# Altium footprint library Supernova Resistors.PcbLib: 45 footprints (part 3 of 3)
Each footprint in its own frame and in the unit in brackets; x right, y up, seen from the top. Pads: shape width x height; smd on the part's side, far side on the other; paste and mask are expansions set on the pad; w line width, h text height; cw(c..) or ccw(c..) is an arc to the next point about the centre after c.
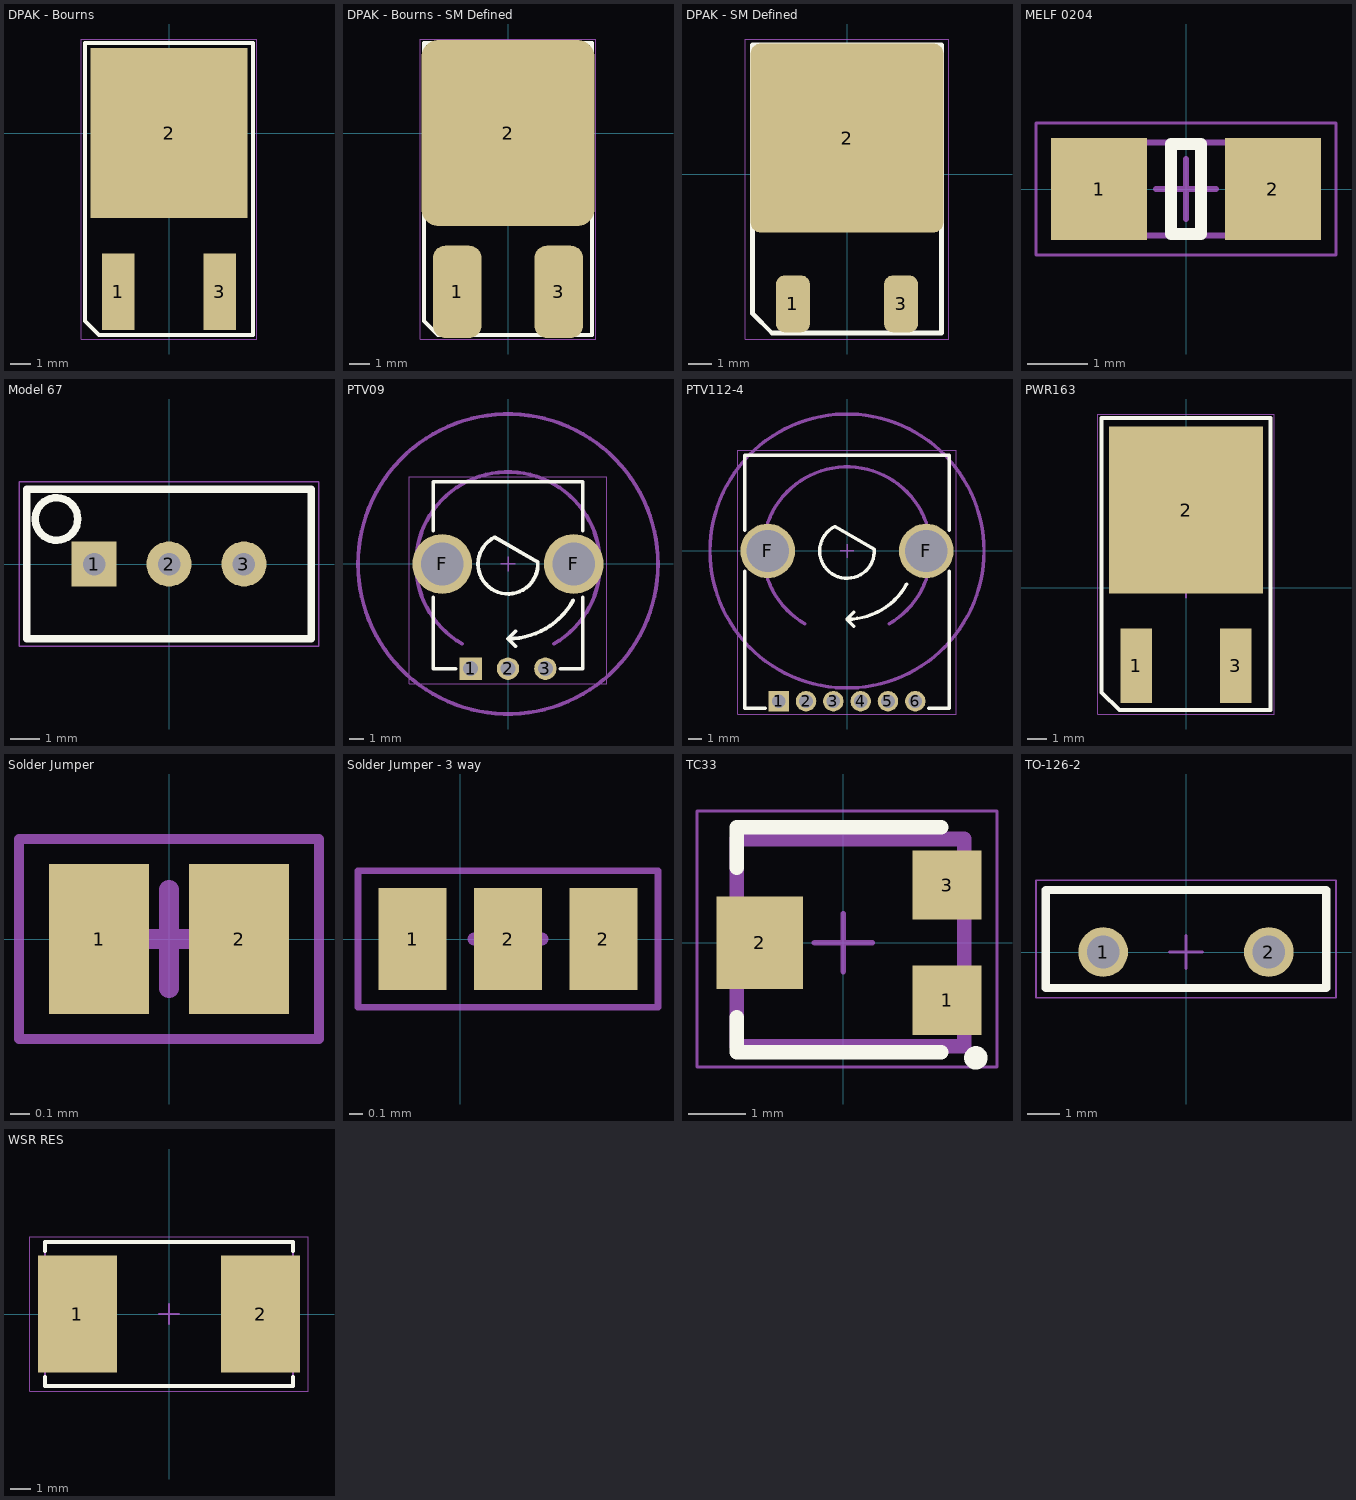
[diagram p2: the footprints below, top view; thin cyan lines are the x and y axes]

## DPAK - Bourns [mm] "D2-PAK/TO-263-AB; 3 Leads (1 Cropped); Body 15.5 (inc. leads) x 10.5 mm (LxW max)"
height 4.69
pads (3):
  rect 1.62x3.81 smd: 1(-2.54,-7.94) 3(2.54,-7.94)
  rect 7.87x8.51 smd paste-5: 2(0,0)
Top Overlay:
  lines w0.2: -4.2,-9.4 -3.5,-10.1 4.2,-10.1 4.2,4.5 -4.2,4.5 -4.2,-9.4
Top Paste:
  region: -3.4,0.276 -0.3,0.276 -0.3,3.75 -3.4,3.75
  region: -3.4,-3.75 -0.3,-3.75 -0.3,-0.224 -3.4,-0.224
  region: 0.3,-3.75 3.4,-3.75 3.4,-0.224 0.3,-0.224
  region: 0.35,0.276 3.45,0.276 3.45,3.75 0.35,3.75
Top Courtyard (Mech15):
  lines w0.05: -4.4,-10.3 -4.4,4.7 4.4,4.7 4.4,-10.3 -4.4,-10.3
  lines w0.1: -0.5,-1.524 0.5,-1.524 ; 0,-2.024 0,-1.024
3D body "pwr163.step": height 2.79, standoff 0, extent -4.065,-8.65 4.065,3.6

## DPAK - Bourns - SM Defined [mm] "D2-PAK/TO-263-AB; 3 Leads (1 Cropped); Body 15.5 (inc. leads) x 10.5 mm (LxW max)"
height 4.69
pads (3):
  rrect50% 2.42x4.61 smd paste-0.4 mask-0.4: 1(-2.54,-7.94) 3(2.54,-7.94)
  rrect20% 8.67x9.31 smd paste-8 mask-0.4: 2(0,0)
Top Overlay:
  lines w0.2: -4.2,-9.4 -4.2,4.5 4.2,4.5 4.2,-10.1 -3.5,-10.1 -4.2,-9.4
Top Paste:
  region: 0.35,0.276 3.45,0.276 3.45,3.75 0.35,3.75
  region: 0.3,-3.75 3.4,-3.75 3.4,-0.224 0.3,-0.224
  region: -3.4,-3.75 -0.3,-3.75 -0.3,-0.224 -3.4,-0.224
  region: -3.4,0.276 -0.3,0.276 -0.3,3.75 -3.4,3.75
Top Courtyard (Mech15):
  lines w0.05: -4.4,-10.3 4.4,-10.3 4.4,4.7 -4.4,4.7 -4.4,-10.3
  lines w0.1: -0.5,-1.524 0.5,-1.524 ; 0,-2.024 0,-1.024
3D body "pwr163.step": height 2.79, standoff 0, extent -4.065,-8.65 4.065,3.6

## DPAK - SM Defined [mm] "D2-PAK/TO-263-AB; 3 Leads (1 Cropped); Body 15.5 (inc. leads) x 10.5 mm (LxW max)"
height 4.69
pads (3):
  rrect50% 1.45x2.4 smd paste-0.2 mask-0.2: 1(-2.29,-5.5) 3(2.29,-5.5)
  rrect10% 8.15x8 smd paste-5 mask-0.3: 2(0,1.524)
Top Overlay:
  lines w0.2: -4,-5.906 -4,5.461 4,5.461 4,-6.731 -3.175,-6.731 -4,-5.906
Top Paste:
  region: 0.35,1.8 3.45,1.8 3.45,4.9 0.35,4.9
  region: 0.3,-1.8 3.4,-1.8 3.4,1.3 0.3,1.3
  region: -3.4,-1.8 -0.3,-1.8 -0.3,1.3 -3.4,1.3
  region: -3.4,1.8 -0.3,1.8 -0.3,4.9 -3.4,4.9
Top Courtyard (Mech15):
  lines w0.05: -4.3,-6.985 -4.3,5.715 4.3,5.715 4.3,-6.985 -4.3,-6.985
  lines w0.1: -0.5,0 0.5,0 ; 0,-0.5 0,0.5
3D body "DPAK_TO-252AA.step": height 2.37, standoff -0.03, extent -3.367,-5.082 3.367,5.018

## MELF 0204 [mm] "MELF Resistor, 2-Leads, Body 3.50x1.40mm, IPC Medium Density"
height 1.55
pads (2):
  rect 1.6x1.7 smd: 1(-1.45,0) 2(1.45,0)
Top Overlay:
  lines w0.2: -0.25,-0.75 0.25,-0.75 0.25,0.75 -0.25,0.75 -0.25,-0.75
Top 3D Body:
  lines w0.1: -1.85,-0.775 -1.85,0.775 1.85,0.775 1.85,-0.775 -1.85,-0.775
Top Courtyard (Mech15):
  lines w0.05: -2.5,-1.1 -2.5,1.1 2.5,1.1 2.5,-1.1 -2.5,-1.1
  lines w0.1: -0.5,0 0.5,0 ; 0,-0.5 0,0.5
3D body: height 1.54, standoff 0, extent -1.85,-0.775 -0.95,0.772
3D body: height 1.53, standoff 0.05, extent -0.95,-0.745 0.95,0.742
3D body: height 1.54, standoff 0, extent 0.95,-0.775 1.85,0.772

## Model 67 [mil]
pads (3):
  rect 60x60 hole 30: 1(-100,0)
  round 60 hole 30: 2(0,0) 3(100,0)
Top Overlay:
  circle w10: c-150,60 r28.28
  lines w10: -190,-100 190,-100 190,100 -190,100 -190,-100
Top Courtyard (Mech15):
  lines w1.97: -200,-110 -200,110 200,110 200,-110 -200,-110
  lines w3.94: -19.68,0 19.68,0 ; 0,-19.69 0,19.68
3D body: height 471.65, standoff 409.45, extent -184.92,4.82 -94.72,95.19
3D body: height 409.45, standoff 0, extent -190,-100 190,100

## PTV09 [mm]
pads (5):
  rect 1.5x1.5 hole 1: 1(-2.5,-7)
  round 1.5 hole 1: 2(0,-7) 3(2.5,-7)
  round 4 hole 2.85: F(-4.4,0) F(4.4,0)
Top Overlay:
  lines w0.254: -5,-2.25 -5,-7 -3.5,-7 ; -5,2.25 -5,5.5 5,5.5 5,2.25 ; 0.5,-5.5 0,-5 ; 0.5,-4.5 0,-5 ; 3.5,-7 5,-7 5,-2.25 ; 4.371,-2.428 cw(c0,0) 0,-5 ; -0.887,1.793 ccw(c0,0) 1.996,0.129 -0.887,1.793
Mechanical 5:
  circle w0.254: c0,0 r10.033
  lines w0.254: -3.081,-5.336 cw(c0,0) 3.081,-5.336
Top Courtyard (Mech15):
  lines w0.05: -6.604,-8.001 -6.604,5.842 6.604,5.842 6.604,-8.001 -6.604,-8.001
  lines w0.1: -0.5,0 0.5,0 ; 0,-0.5 0,0.5
3D body "ptv09a-4x20f-xxxx.stp": height 20.05, standoff -3.94, extent -5.7,-7.15 5.7,5.5

## PTV112-4 [mm]
pads (8):
  rect 1.5x1.5 hole 1: 1(-5,-11)
  round 1.5 hole 1: 2(-3,-11) 3(-1,-11) 4(1,-11) 5(3,-11) 6(5,-11)
  round 4 hole 3.1: F(-5.8,0) F(5.8,0)
Top Overlay:
  lines w0.254: -7.5,-1.5 -7.5,-11.5 -6,-11.5 ; -7.5,1.5 -7.5,7 7.5,7 7.5,1.5 ; 0.5,-5.5 0,-5 ; 0.5,-4.5 0,-5 ; 4.371,-2.428 cw(c0,0) 0,-5 ; 6,-11.5 7.5,-11.5 7.5,-1.5 ; -0.887,1.793 ccw(c0,0) 1.996,0.129 -0.887,1.793
Mechanical 5:
  circle w0.254: c0,0 r10.033
  lines w0.254: -3.081,-5.336 cw(c0,0) 3.081,-5.336
Top Courtyard (Mech15):
  lines w0.05: -8.001,-11.938 8.001,-11.938 8.001,7.366 -8.001,7.366 -8.001,-11.938
  lines w0.1: -0.5,0 0.5,0 ; 0,-0.5 0,0.5
3D body "ptv112-3417a-xxxxx.stp": height 25, standoff -3.8, extent -7.2,-11.2 7.2,6.7

## PWR163 [mm] "D2-PAK/TO-263-AB; 3 Leads (1 Cropped); Body 15.5 (inc. leads) x 10.5 mm (LxW max)"
height 4.69
pads (3):
  rect 1.62x3.81 smd: 1(-2.54,-3.97) 3(2.54,-3.97)
  rect 7.87x8.51 smd paste-5: 2(0,3.97)
Top Overlay:
  lines w0.2: -4.3,-5.33 -4.3,8.67 4.3,8.67 4.3,-6.23 -3.4,-6.23 -4.3,-5.33
Top Paste:
  region: -3.6,4.246 -0.3,4.246 -0.3,7.9 -3.6,7.9
  region: 3.6,4.246 0.3,4.246 0.3,7.9 3.6,7.9
  region: 3.6,3.694 0.3,3.694 0.3,0.04 3.6,0.04
  region: -3.6,3.694 -0.3,3.694 -0.3,0.04 -3.6,0.04
Top Courtyard (Mech15):
  lines w0.05: -4.5,-6.43 -4.5,8.87 4.5,8.87 4.5,-6.43 -4.5,-6.43
  lines w0.1: -0.5,0 0.5,0 ; 0,-0.5 0,0.5
3D body "pwr163.stp": height 2.79, standoff 0, extent -4.065,-5.05 4.065,7.2

## Solder Jumper [mil]
pads (2):
  rect 20x30 smd paste-39.37 mask+0: 1(-14,0) 2(14,0)
Top Solder:
  rectangle: -4,-15 4,15
Top Courtyard (Mech15):
  lines w1.97: -30,-20 30,-20 30,20 -30,20 -30,-20
  lines w3.94: -9.84,0 9.84,0 ; 0,-9.84 0,9.84

## Solder Jumper - 3 way [mil]
pads (3):
  rect 20x30 smd paste-39.37 mask+0: 1(-14,0) 2(14,0) 2(42,0)
Top Solder:
  rectangle: -14,-15 42,15
Top Courtyard (Mech15):
  lines w1.97: -30,-20 58,-20 58,20 -30,20 -30,-20
  lines w3.94: 4.16,0 23.84,0 ; 14,-9.84 14,9.84

## TC33 [mm]
pads (3):
  rect 1.2x1.2 smd: 1(1.8,-1) 3(1.8,1)
  rect 1.5x1.6 smd: 2(-1.45,0)
Top Overlay:
  circle w0.203: c2.3,-2 r0.102
  lines w0.254: -1.85,-1.3 -1.85,-1.9 1.7,-1.9 ; -1.85,1.3 -1.85,2 1.7,2
Top 3D Body:
  lines w0.254: -1.85,-1.8 -1.85,1.8 2.1,1.8 2.1,-1.8 -1.85,-1.8
Top Courtyard (Mech15):
  lines w0.05: -2.54,-2.159 2.667,-2.159 2.667,2.286 -2.54,2.286 -2.54,-2.159
  lines w0.1: -0.5,0 0.5,0 ; 0,-0.5 0,0.5
3D body "TC-33X-2.stp": height 1.13, standoff -0.02, extent -1.85,-1.8 2.113,1.8

## TO-126-2 [mil]
pads (2):
  round 60 hole 39.37: 1(-100,0) 2(100,0)
Top Overlay:
  lines w10: -169.29,-43.31 -169.29,74.8 169.29,74.8 169.29,-43.31 -169.29,-43.31
Top Courtyard (Mech15):
  lines w1.97: -181.1,-55.12 -181.1,86.61 181.1,86.61 181.1,-55.12 -181.1,-55.12
  lines w3.94: -19.68,0 19.68,0 ; 0,-19.69 0,19.68
3D body "User Library-TO-126-2.step": height 526.42, standoff -384.29, extent -165.74,-39.37 165.74,70.63

## WSR RES [mm] "Resistor 2-Leads, Body 11.56x6.98mm, IPC Medium Density"
height 2.54
pads (2):
  rect 3.94x5.84 smd paste-3: 1(-4.575,0) 2(4.575,0)
Top Overlay:
  lines w0.2: -6.2,-3.15 -6.2,-3.6 6.2,-3.6 6.2,-3.15 ; -6.2,3.15 -6.2,3.6 6.2,3.6 6.2,3.15
Top Paste:
  region: 6.325,-0.25 4.825,-0.25 4.825,-2.75 6.325,-2.75
  rectangle: 2.825,-2.75 4.325,-0.25
  region: 6.325,2.75 4.825,2.75 4.825,0.25 6.325,0.25
  rectangle: 2.825,0.25 4.325,2.75
  region: -2.825,-0.25 -4.325,-0.25 -4.325,-2.75 -2.825,-2.75
  rectangle: -6.325,-2.75 -4.825,-0.25
  region: -2.825,2.75 -4.325,2.75 -4.325,0.25 -2.825,0.25
  rectangle: -6.325,0.25 -4.825,2.75
Top 3D Body:
  lines w0.1: -6.185,-3.555 -6.185,3.555 6.185,3.555 6.185,-3.555 -6.185,-3.555
Top Courtyard (Mech15):
  lines w0.05: -6.95,-3.85 -6.95,3.85 6.95,3.85 6.95,-3.85 -6.95,-3.85
  lines w0.1: -0.5,0 0.5,0 ; 0,-0.5 0,0.5
3D body: height 2.54, standoff 0, extent -6.185,-3.555 6.185,3.555